# Altium footprint library PcbLib1.PcbLib: 8 footprints
Each footprint in its own frame and in the unit in brackets; x right, y up, seen from the top. Pads: shape width x height; smd on the part's side, far side on the other; paste and mask are expansions set on the pad; w line width, h text height; cw(c..) or ccw(c..) is an arc to the next point about the centre after c.
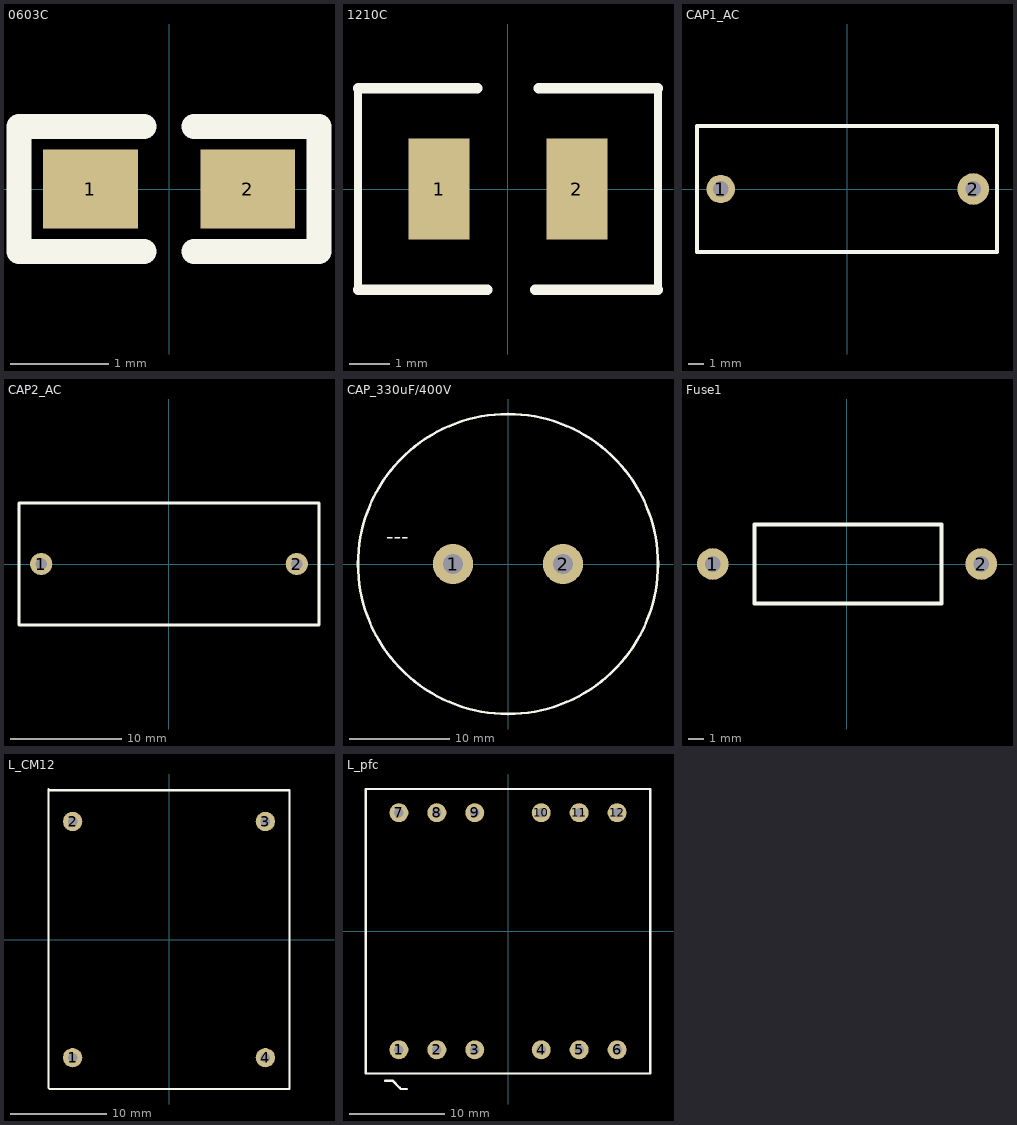
[diagram p0: the footprints below, top view; thin cyan lines are the x and y axes]

## 0603C [mm]
pads (2):
  rect 0.965x0.8 smd: 1(-0.8,0) 2(0.8,0)
Top Overlay:
  lines w0.254: -0.254,-0.635 -1.524,-0.635 -1.524,0.635 -0.254,0.635 ; 0.254,-0.635 1.524,-0.635 1.524,0.635 0.254,0.635

## 1210C [mm]
pads (2):
  rect 1.52x2.5 smd: 1(-1.71,0) 2(1.71,0)
Top Overlay:
  lines w0.2: -3.72,-2.5 -3.72,0 -3.72,2.5 ; 3.72,-2.5 3.72,2.5
  lines w0.254: -3.72,-2.5 -0.762,-2.5 -0.508,-2.5 ; -3.72,2.5 -0.762,2.5 ; 0.675,-2.5 3.72,-2.5 ; 0.762,2.5 3.72,2.5

## CAP1_AC [mm]
pads (2):
  round 1.8 hole 1: 1(-8,0)
  round 2 hole 1: 2(8,0)
Top Overlay:
  lines w0.254: -9.5,-4 -9.5,0 -9.5,4 9.5,4 9.5,0 9.5,-4 -9.5,-4

## CAP2_AC [mm]
pads (2):
  round 2 hole 1: 1(-11.5,0) 2(11.5,0)
Top Overlay:
  lines w0.254: -13.5,-5.5 13.5,-5.5 13.5,0 13.5,5.5 -13.5,5.5 -13.5,0 -13.5,-5.5

## CAP_330uF/400V [mm]
height 35
pads (2):
  round 4 hole 2: 1(-5.5,0) 2(5.5,0)
Top Overlay:
  circle w0.254: c0,0 r15
  text "---" at -12.192,2.032 h1.52

## Fuse1 [mm]
pads (2):
  round 2 hole 1: 1(-8.5,0) 2(8.5,0)
Top Overlay:
  lines w0.254: -5.873,-2.5 6,-2.5 6,0 6,2.5 -5.873,2.5 -5.873,0 -5.873,-2.5

## L_CM12 [mm]
pads (4):
  round 2 hole 1: 1(-10,-12.25) 2(-10,12.25) 3(10,12.25) 4(10,-12.25)
Top Overlay:
  lines w0.254: -12.5,-15.373 -12.5,0.127 -12.5,15.627 ; -12.5,15.494 12.494,15.494 ; -12.373,-15.5 12.5,-15.5 12.5,0 12.5,15.5

## L_pfc [mm]
height 23
pads (12):
  round 2 hole 1: 1(-11.499,-12.5) 2(-7.499,-12.5) 3(-3.5,-12.5) 4(3.501,-12.5) 5(7.501,-12.5) 6(11.501,-12.5) 7(-11.501,12.5) 8(-7.501,12.5) 9(-3.501,12.5) 10(3.5,12.5) 11(7.499,12.5) 12(11.499,12.5)
Top Overlay:
  lines w0.254: -12.954,-15.748 -12.192,-15.748 -11.43,-16.51 ; -11.303,-16.637 -10.668,-16.637 ; -15,-15 -15,15 0,15 15,15 15,-15 0,-15 -15,-15